# Altium schematic symbol library IN-S85DATRG.Schlib: 1 symbol
Pins are listed as number, name and electrical type; pins without a type are passive.

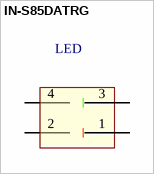
[diagram p0: symbol IN-S85DATRG]

## IN-S85DATRG
designator LED
LED Red&Green
pins: 1, 2, 3, 4